# Altium integrated library Analog Devices Data Converters Analog-to-Digital Converters.IntLib: 2404 symbols (part 33 of 346)
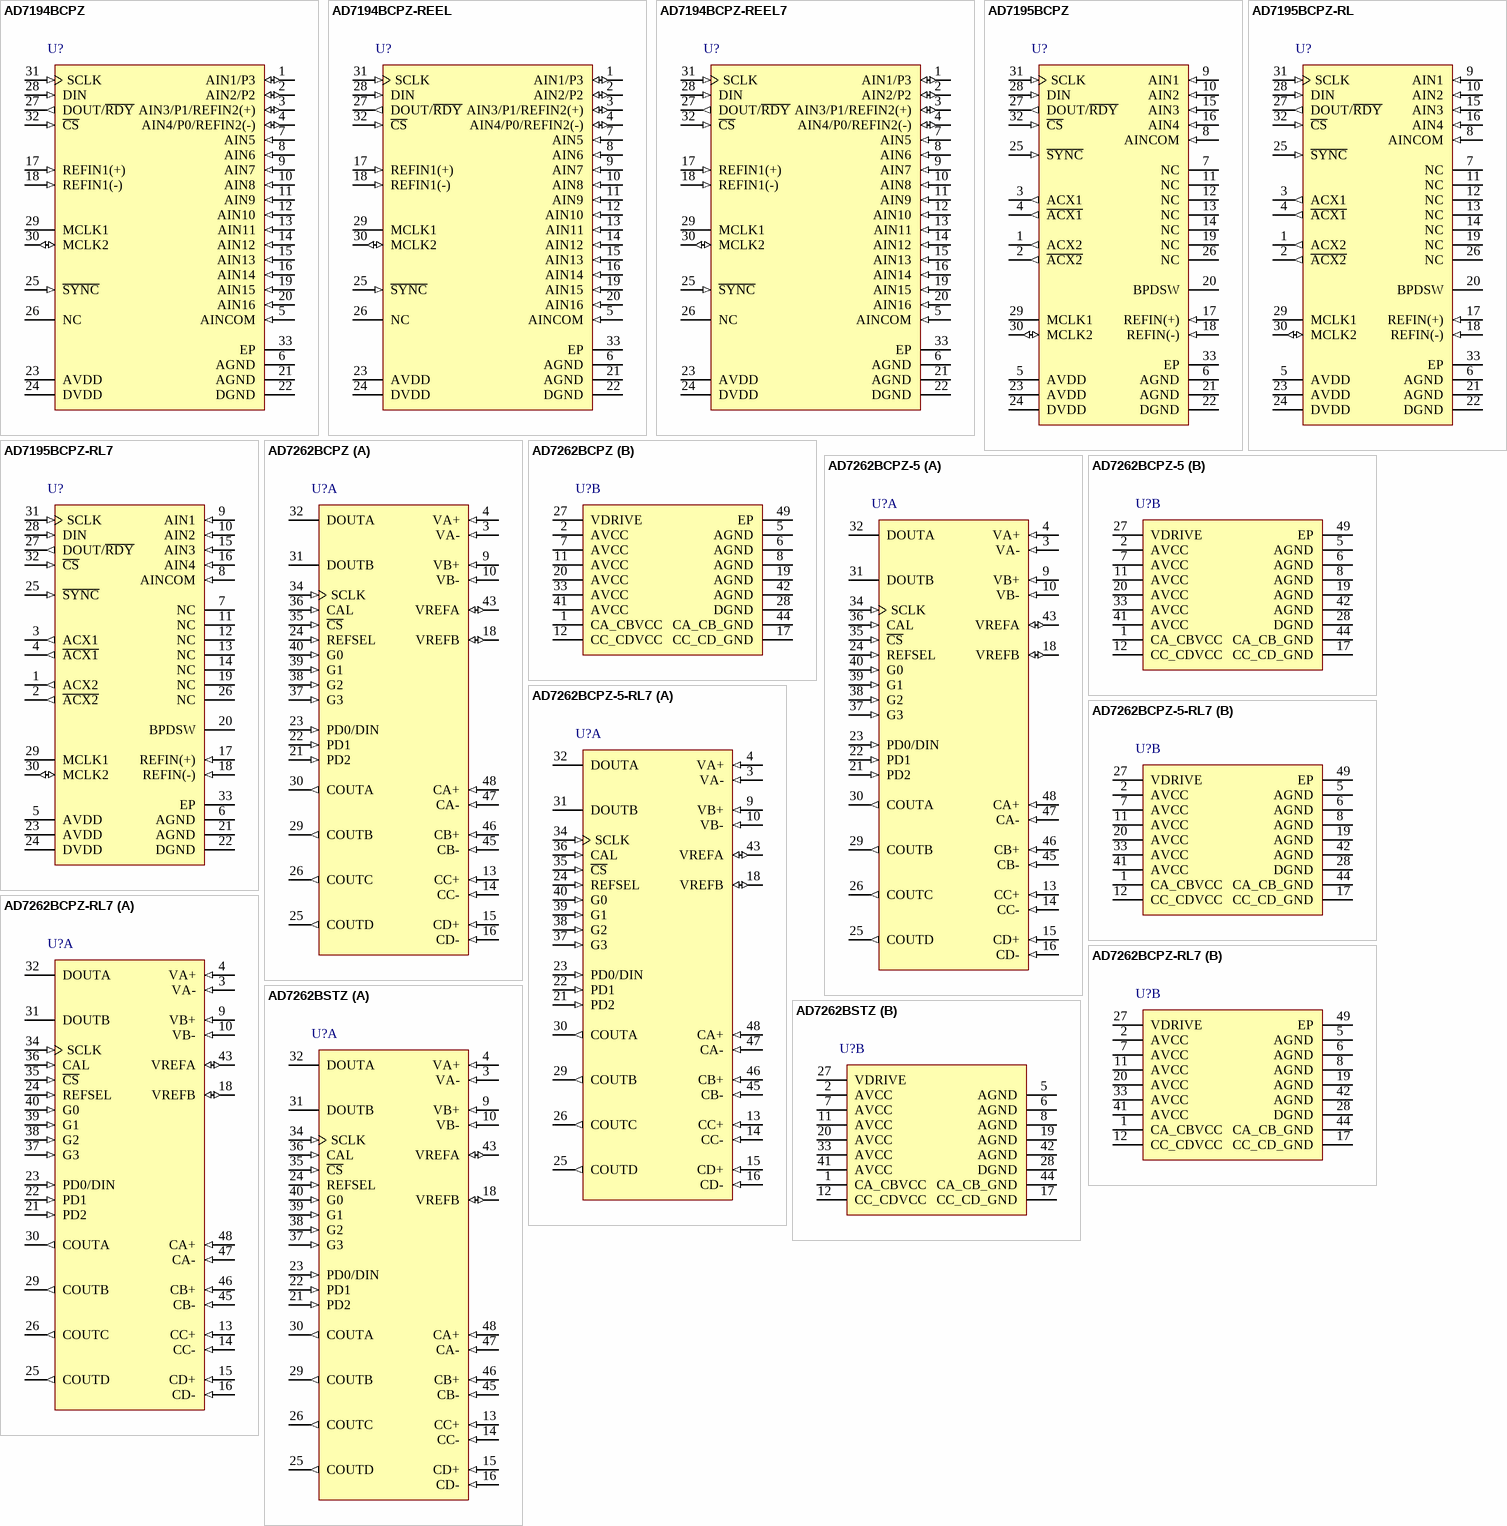
[diagram p272: symbols AD7194BCPZ to AD7262BSTZ]

## AD7195BCPZ
designator U?
Quad 24-Bit Ultralow Noise Sigma-Delta Analog-to-Digital Converter with Serial, SPI Interface and PGA, 4.8KSPS, -40 to +105 degC, CP-32-11, Pb-Free, Tray; Generic Part Number: AD7195; Manufacturer: Analog Devices; PartNumber: AD7195BCPZ; Resolution (Bits): 24; Channels: 4; Throughput Rate (SPS): 4.8K; Interface: Ser, SPI; DatasheetVersion: Rev.0; PackageVersion: 011708-A; PackageReference: CP-32-11; PackageDescription: 32-Lead Lead Frame Chip Scale Package [LFCSP_VQ] 5 x 5 mm Body, Very Thin Quad; Supplier 1: Digi-Key; Supplier Part Number 1: AD7195BCPZ-ND; Supplier 2: Farnell; Supplier Part Number 2: 2096179; Supplier 3: Newark; Supplier Part Number 3: 91T4810; Supplier 4: Newark; Supplier Part Number 4: 67R2255; Supplier 5: Mouser; Supplier Part Number 5: 584-AD7195BCPZ; RoHS: Y; Packing: Tray; Mounting Technology: Surface Mount; ComponentLink1Description: Manufacturer URL; ComponentLink1URL: http://www.analog.com/en/index.html; ComponentLink2Description: Datasheet; ComponentLink2URL: http://www.analog.com/static/imported-files/data_sheets/AD7195.pdf; ComponentLink3Description: Package Specification; ComponentLink3URL: http://www.analog.com/static/imported-files/packages/PKG_PDF/LFCSP(CP)/CP-32/CP_32_11.pdf; ComponentLink4Description: Product URL; ComponentLink4URL: http://www.analog.com/en/analog-to-digital-converters/ad-converters/ad7195/products/product.html
footprint CP-32-11_N (QFN, 32-Leads, Body 5x5mm, Pitch 0.5mm, Thermal Pad 3.6x3.6mm, IPC Medium Density)
footprint CP-32-11_L (QFN, 32-Leads, Body 5x5mm, Pitch 0.5mm, Thermal Pad 3.6x3.6mm, IPC High Density)
footprint CP-32-11_M (QFN, 32-Leads, Body 5x5mm, Pitch 0.5mm, Thermal Pad 3.6x3.6mm, IPC Low Density)
pins: 1 ACX2 (out) "Digital Output. Provides a signal that can be used to control the reversing of the bridge excitation in ac excited bridge applications. In ac mode, ACX2 toggles in anti-phase with ACX1. If the ACX bit equals zero (ac (See Datasheet)", 2 ~{ACX2} (out) "Digital Output. Provides a signal that can be used to control the reversing of the bridge excitation in ac excited bridge applications. This output is the inverse of ACX2. If the ACX bit equals zero (ac excitation turned (See Datasheet)", 3 ACX1 (out) "Digital Output. Provides a signal that can be used to control the reversing of the bridge excitation in ac excited bridge applications. When ACX1 is high, the bridge excitation is taken as normal and when ACX1 is low, the (See Datasheet)", 4 ~{ACX1} (out) "Digital Output. Provides a signal that can be used to control the reversing of the bridge excitation in ac excited bridge applications. This output is the inverse of ACX1. When A\C\X\1\ is low, the bridge excitation is taken (See Datasheet)", 5 AVDD (power) "Analog Supply Voltage, 4.75 V to 5.25 V. AVDD is independent of DVDD.", 6 AGND (power) "Analog Ground Reference Point.", 7 NC "No Connect. This pin should be tied to AGND.", 8 AINCOM (in) "Analog inputs AIN1 to AIN4 are referenced to this input when configured for pseudo differential operation.", 9 AIN1 (in) "Analog Input. This pin can be configured as the positive input of a fully differential input pair when used with AIN2 or as a pseudo differential input when used with AINCOM.", 10 AIN2 (in) "Analog Input. This pin can be configured as the negative input of a fully differential input pair when used with AIN1 or as a pseudo differential input when used with AINCOM.", 11 NC "No Connect. This pin should be tied to AGND.", 12 NC "No Connect. This pin should be tied to AGND.", 13 NC "No Connect. This pin should be tied to AGND.", 14 NC "No Connect. This pin should be tied to AGND.", 15 AIN3 (in) "Analog Input. This pin can be configured as the positive input of a fully differential input pair when used with AIN4 or as a pseudo differential input when used with AINCOM.", 16 AIN4 (in) "Analog Input. This pin can be configured as the negative input of a fully differential input pair when used with AIN3 or as a pseudo differential input when used with AINCOM.", 17 REFIN(+) (in) "Positive Reference Input. An external reference can be applied between REFIN(+) and REFIN(-). REFIN(+) can lie anywhere between AVDD and AGND + 1 V. The nominal reference voltage, (REFIN(+) - REFIN(-)), is AVDD,but the part (See Datasheet)", 18 REFIN(-) (in) "Negative Reference Input. This reference input can lie anywhere between AGND and AVDD - 1 V.", 19 NC "No Connect. This pin should be tied to AGND.", 20 BPDSW "Bridge Power-Down Switch to AGND.", 21 AGND (power) "Analog Ground Reference Point.", 22 DGND (power) "Digital Ground Reference Point.", 23 AVDD (power) "Analog Supply Voltage, 4.75 V to 5.25 V. AVDD is independent of DVDD.", 24 DVDD (power) "Digital Supply Voltage, 2.7 V to 5.25 V. DVDD is independent of AVDD.", 25 ~{SYNC} (in) "Logic input that allows for synchronization of the digital filters and analog modulators when using a number of AD7195 devices. While S\Y\N\C\ is low, the nodes of the digital filter, the filter control logic, and the (See Datasheet)", 26 NC "No Connect. This pin should be tied to AGND.", 27 DOUT/~{RDY} (out) "Serial Data Output/Data Ready Output. DOUT/R\D\Y\ serves a dual purpose. It functions as a serial data output pin to access the output shift register of the ADC. The output shift register can contain data from any of the (See Datasheet)", 28 DIN (in) "Serial Data Input to the Input Shift Register on the ADC. Data in this shift register is transferred to the control registers in the ADC, with the register selection bits of the communications register identifying the (See Datasheet)", 29 MCLK1 "When the master clock for the device is provided externally by a crystal, the crystal is connected between MCLK1 and MCLK2.", 30 MCLK2 (io) "Master Clock Signal for the Device. The AD7195 has an internal 4.92 MHz clock. This internal clock can be made available on the MCLK2 pin. The clock for the AD7195 can be provided externally also in the form of a crystal or (See Datasheet)", 31 SCLK (in) "Serial Clock Input. This serial clock input is for data transfers to and from the ADC. The SCLK has a Schmitttriggered input, making the interface suitable for opto-isolated applications. The serial clock can be continuous (See Datasheet)", 32 ~{CS} (in) "Chip Select Input. This is an active low logic input used to select the ADC. C\S\ can be used to select the ADC in systems with more than one device on the serial bus or as a frame synchronization signal in communicating (See Datasheet)", 33 EP (power) "Connect Exposed Pad to AGND."

## AD7195BCPZ-RL
designator U?
Quad 24-Bit Ultralow Noise Sigma-Delta Analog-to-Digital Converter with Serial, SPI Interface and PGA, 4.8KSPS, -40 to +105 degC, CP-32-11, Pb-Free, Reel; Generic Part Number: AD7195; Manufacturer: Analog Devices; PartNumber: AD7195BCPZ-RL; Resolution (Bits): 24; Channels: 4; Throughput Rate (SPS): 4.8K; Interface: Ser, SPI; DatasheetVersion: Rev.0; PackageVersion: 011708-A; PackageReference: CP-32-11; PackageDescription: 32-Lead Lead Frame Chip Scale Package [LFCSP_VQ] 5 x 5 mm Body, Very Thin Quad; Supplier 1: Digi-Key; Supplier Part Number 1: AD7195BCPZ-RL-ND; Supplier 2: Newark; Supplier Part Number 2: 67R2256; Supplier 3: Mouser; Supplier Part Number 3: 584-AD7195BCPZ-R; RoHS: Y; Packing: Reel; Mounting Technology: Surface Mount; ComponentLink1Description: Manufacturer URL; ComponentLink1URL: http://www.analog.com/en/index.html; ComponentLink2Description: Datasheet; ComponentLink2URL: http://www.analog.com/static/imported-files/data_sheets/AD7195.pdf; ComponentLink3Description: Package Specification; ComponentLink3URL: http://www.analog.com/static/imported-files/packages/PKG_PDF/LFCSP(CP)/CP-32/CP_32_11.pdf; ComponentLink4Description: Product URL; ComponentLink4URL: http://www.analog.com/en/analog-to-digital-converters/ad-converters/ad7195/products/product.html
footprint CP-32-11_N (QFN, 32-Leads, Body 5x5mm, Pitch 0.5mm, Thermal Pad 3.6x3.6mm, IPC Medium Density)
footprint CP-32-11_L (QFN, 32-Leads, Body 5x5mm, Pitch 0.5mm, Thermal Pad 3.6x3.6mm, IPC High Density)
footprint CP-32-11_M (QFN, 32-Leads, Body 5x5mm, Pitch 0.5mm, Thermal Pad 3.6x3.6mm, IPC Low Density)
pins: 1 ACX2 (out) "Digital Output. Provides a signal that can be used to control the reversing of the bridge excitation in ac excited bridge applications. In ac mode, ACX2 toggles in anti-phase with ACX1. If the ACX bit equals zero (ac (See Datasheet)", 2 ~{ACX2} (out) "Digital Output. Provides a signal that can be used to control the reversing of the bridge excitation in ac excited bridge applications. This output is the inverse of ACX2. If the ACX bit equals zero (ac excitation turned (See Datasheet)", 3 ACX1 (out) "Digital Output. Provides a signal that can be used to control the reversing of the bridge excitation in ac excited bridge applications. When ACX1 is high, the bridge excitation is taken as normal and when ACX1 is low, the (See Datasheet)", 4 ~{ACX1} (out) "Digital Output. Provides a signal that can be used to control the reversing of the bridge excitation in ac excited bridge applications. This output is the inverse of ACX1. When A\C\X\1\ is low, the bridge excitation is taken (See Datasheet)", 5 AVDD (power) "Analog Supply Voltage, 4.75 V to 5.25 V. AVDD is independent of DVDD.", 6 AGND (power) "Analog Ground Reference Point.", 7 NC "No Connect. This pin should be tied to AGND.", 8 AINCOM (in) "Analog inputs AIN1 to AIN4 are referenced to this input when configured for pseudo differential operation.", 9 AIN1 (in) "Analog Input. This pin can be configured as the positive input of a fully differential input pair when used with AIN2 or as a pseudo differential input when used with AINCOM.", 10 AIN2 (in) "Analog Input. This pin can be configured as the negative input of a fully differential input pair when used with AIN1 or as a pseudo differential input when used with AINCOM.", 11 NC "No Connect. This pin should be tied to AGND.", 12 NC "No Connect. This pin should be tied to AGND.", 13 NC "No Connect. This pin should be tied to AGND.", 14 NC "No Connect. This pin should be tied to AGND.", 15 AIN3 (in) "Analog Input. This pin can be configured as the positive input of a fully differential input pair when used with AIN4 or as a pseudo differential input when used with AINCOM.", 16 AIN4 (in) "Analog Input. This pin can be configured as the negative input of a fully differential input pair when used with AIN3 or as a pseudo differential input when used with AINCOM.", 17 REFIN(+) (in) "Positive Reference Input. An external reference can be applied between REFIN(+) and REFIN(-). REFIN(+) can lie anywhere between AVDD and AGND + 1 V. The nominal reference voltage, (REFIN(+) - REFIN(-)), is AVDD,but the part (See Datasheet)", 18 REFIN(-) (in) "Negative Reference Input. This reference input can lie anywhere between AGND and AVDD - 1 V.", 19 NC "No Connect. This pin should be tied to AGND.", 20 BPDSW "Bridge Power-Down Switch to AGND.", 21 AGND (power) "Analog Ground Reference Point.", 22 DGND (power) "Digital Ground Reference Point.", 23 AVDD (power) "Analog Supply Voltage, 4.75 V to 5.25 V. AVDD is independent of DVDD.", 24 DVDD (power) "Digital Supply Voltage, 2.7 V to 5.25 V. DVDD is independent of AVDD.", 25 ~{SYNC} (in) "Logic input that allows for synchronization of the digital filters and analog modulators when using a number of AD7195 devices. While S\Y\N\C\ is low, the nodes of the digital filter, the filter control logic, and the (See Datasheet)", 26 NC "No Connect. This pin should be tied to AGND.", 27 DOUT/~{RDY} (out) "Serial Data Output/Data Ready Output. DOUT/R\D\Y\ serves a dual purpose. It functions as a serial data output pin to access the output shift register of the ADC. The output shift register can contain data from any of the (See Datasheet)", 28 DIN (in) "Serial Data Input to the Input Shift Register on the ADC. Data in this shift register is transferred to the control registers in the ADC, with the register selection bits of the communications register identifying the (See Datasheet)", 29 MCLK1 "When the master clock for the device is provided externally by a crystal, the crystal is connected between MCLK1 and MCLK2.", 30 MCLK2 (io) "Master Clock Signal for the Device. The AD7195 has an internal 4.92 MHz clock. This internal clock can be made available on the MCLK2 pin. The clock for the AD7195 can be provided externally also in the form of a crystal or (See Datasheet)", 31 SCLK (in) "Serial Clock Input. This serial clock input is for data transfers to and from the ADC. The SCLK has a Schmitttriggered input, making the interface suitable for opto-isolated applications. The serial clock can be continuous (See Datasheet)", 32 ~{CS} (in) "Chip Select Input. This is an active low logic input used to select the ADC. C\S\ can be used to select the ADC in systems with more than one device on the serial bus or as a frame synchronization signal in communicating (See Datasheet)", 33 EP (power) "Connect Exposed Pad to AGND."